# Altium footprint library 28Pin_project_1.1_PCB.PcbLib: 29 footprints (part 2 of 2)
Each footprint in its own frame and in the unit in brackets; x right, y up, seen from the top. Pads: shape width x height; smd on the part's side, far side on the other; paste and mask are expansions set on the pad; w line width, h text height; cw(c..) or ccw(c..) is an arc to the next point about the centre after c.
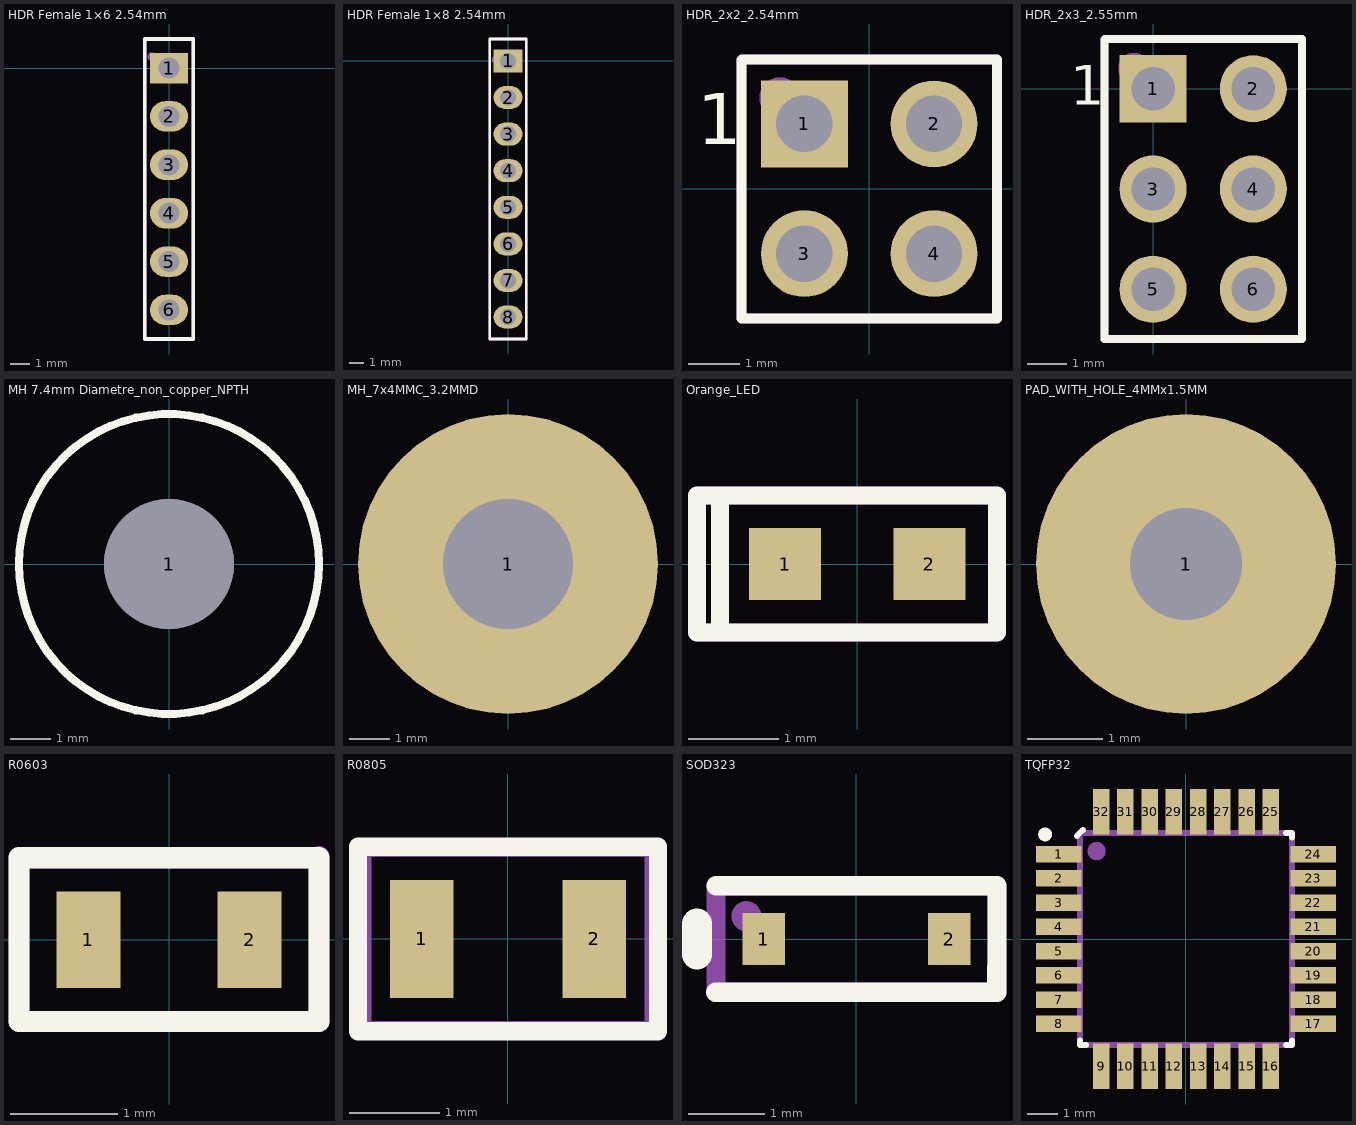
[diagram p1: the footprints below, top view; thin cyan lines are the x and y axes]

## HDR Female 1×6 2.54mm [mm]
pads (6):
  rect 2x1.6 hole 1.1: 1(0,0)
  oval 2x1.6 hole 1.1: 2(0,-2.54) 3(0,-5.08) 4(0,-7.62) 5(0,-10.16) 6(0,-12.7)
Top Overlay:
  lines w0.2: -1.27,-14.224 1.27,-14.224 1.27,1.524 -1.27,1.524 -1.27,-14.224
Mechanical 2:
  circle w0.254: c-0.9,0.6 r0.1
  lines w0.2: -1.27,-14.224 -0.635,-14.224 0.635,-14.224 1.27,-14.224 1.27,1.524 -1.27,1.524 -1.27,-14.224
  text "1" at -2.54,-0.508 h1
  text ".Designator" at 1.138,-9.946 h1.52
3D body "M20-7820646.stp": height 8.66, standoff -3.24, extent -1.23,-14.224 1.27,1.416

## HDR Female 1×8 2.54mm [mm]
pads (8):
  rect 2x1.6 hole 1.1: 1(0,0)
  oval 2x1.6 hole 1.1: 2(0,-2.54) 3(0,-5.08) 4(0,-7.62) 5(0,-10.16) 6(0,-12.7) 7(0,-15.24) 8(0,-17.78)
Top Overlay:
  lines w0.2: -1.27,-19.304 -1.27,-19.05 -1.27,1.524 1.27,1.524 1.27,-19.05 1.27,-19.304 -1.27,-19.304
Mechanical 2:
  circle w0.254: c-0.9,0.1 r0.1
  lines w0.2: -1.27,-19.304 -1.27,1.524 1.27,1.524 1.27,-19.304 0.635,-19.304 -0.635,-19.304 -1.27,-19.304
  text "1" at -2.54,-0.508 h1
  text ".Designator" at 0.548,-15.766 h1.52
3D body "m20-7820842_asm.stp": height 8.31, standoff -3.19, extent -1.23,-19.25 1.27,1.47

## HDR_2x2_2.54mm [mm]
pads (4):
  rect 1.7x1.7 hole 1.1: 1(-1.27,1.27)
  round 1.7 hole 1.1: 2(1.27,1.27) 3(-1.27,-1.27) 4(1.27,-1.27)
Top Overlay:
  lines w0.2: -0.62,2.53 2.5,2.53 2.5,-2.54 -2.5,-2.54 -2.5,2.515 -2.485,2.53 0.65,2.53
  text "1" at -3.37,0.87 h1
Mechanical 2:
  circle w0.6: c-1.75,1.78 r0.1
  lines w0.2: -2.5,-2.54 -2.5,2.53 2.5,2.53 2.5,-2.54 -2.5,-2.54
  text ".Designator" at 0.508,-1.27 h1.52
3D body "961204-6404-XX.stp": height 8, standoff -3.3, extent -2.58,-2.505 2.5,2.495

## HDR_2x3_2.55mm [mm]
pads (6):
  rect 1.7x1.7 hole 1.1: 1(0,0)
  round 1.7 hole 1.1: 2(2.54,0) 3(0,-2.54) 4(2.54,-2.54) 5(0,-5.08) 6(2.54,-5.08)
Top Overlay:
  lines w0.2: 0.65,1.26 3.77,1.26 3.77,-6.34 -1.23,-6.34 -1.23,1.245 -1.215,1.26 1.92,1.26
  text "1" at -2.1,-0.4 h1
Mechanical 2:
  circle w0.6: c-0.48,0.51 r0.1
  lines w0.2: -1.23,-6.34 -1.23,1.26 3.77,1.26 3.77,-6.34 -1.23,-6.34
  text ".Designator" at 2.008,-4.636 h1.52
3D body "961206-6404-XX-header3x2.stp": height 8.01, standoff -3.29, extent -1.23,-6.35 3.77,1.27

## MH 7.4mm Diametre_non_copper_NPTH [mm]
pads (1):
  round 3.2 hole 3.2 unplated: 1(0,0)
Top Overlay:
  circle w0.2: c0,0 r3.7

## MH_7x4MMC_3.2MMD [mm]
pads (1):
  round 7.4 hole 3.2: 1(0,0)

## Orange_LED [mm]
pads (2):
  rect 0.8x0.8 smd: 1(-0.8,0) 2(0.8,0)
Top Overlay:
  lines w0.2: -1.524,-0.762 -1.778,-0.762 -1.778,-0.406 -1.778,0.356 -1.778,0.762 -1.524,0.762 ; -1.524,-0.762 1.549,-0.762 1.549,-0.381 1.549,0.381 1.549,0.762 -1.524,0.762 ; -1.524,-0.762 -1.524,-0.381 -1.524,0.381 -1.524,0.762
Mechanical 2:
  lines w0.2: -1.524,-0.686 -1.524,0.737 ; -1.778,-0.762 -1.778,0.762 1.549,0.762 1.549,-0.762 -1.778,-0.762
  text ".Designator" at -1.118,-0.359 h0.6
3D body: height 0.66, standoff 0, extent -0.152,-0.152 0.153,0.152
3D body "User Library-LED SMD 0603 super red.step": height 0.65, standoff 0, extent -0.85,-0.394 0.85,0.406

## PAD_WITH_HOLE_4MMx1.5MM [mm]
pads (1):
  round 4 hole 1.5: 1(0,0)

## PCBComponent_1 [mm]

## R0603 [mm]
pads (2):
  rect 0.6x0.9 smd: 1(-0.75,0) 2(0.75,0)
Top Overlay:
  lines w0.2: -1.397,-0.762 -1.397,0.762 1.397,0.762 1.397,-0.762 -1.397,-0.762
Mechanical 2:
  lines w0.2: -1.397,-0.762 1.397,-0.762 1.397,0.775 1.384,0.762 -1.397,0.762 -1.397,-0.762
  text ".Designator" at -0.826,-0.305 h0.76
3D body "R0603.step": height 0.81, standoff 0.01, extent -0.8,-0.419 0.8,0.421

## R0805 [mm]
pads (2):
  rect 0.7x1.3 smd: 1(-0.95,0) 2(0.95,0)
Top Overlay:
  lines w0.2: -1.651,-1.016 1.651,-1.016 1.651,1.016 -1.651,1.016 -1.651,-1.016
Mechanical 2:
  lines w0.2: -1.6,-1 1.6,-1 1.6,1 -1.6,1 -1.6,-1
  text ".Designator" at -1.15,-0.283 h0.8
3D body "User Library-Chip Resistor2.step": height 0.71, standoff 0.01, extent -1.013,-0.6 0.987,0.6

## SOD323 [mil]
pads (2):
  rect 22x27 smd: 1(-48,0) 2(48,0)
Top Overlay:
  lines w10: -73,-27.56 70.87,-27.56 ; -72.83,27.56 70.87,27.56 ; 72.67,-27.56 72.83,0 72.83,27.56
  lines w15.75: -82.68,-7.87 -82.68,7.87
Mechanical 2:
  circle w10: c-57.09,11.81 r2.78
  lines w10: -72.83,-27.56 72.83,-27.56 72.83,27.56 -72.83,27.56 -72.83,-27.56
  text ".Designator" at -51.18,-5.26 h55.12
3D body "User Library-SOD323.step": height 35.43, standoff -3.54, extent -49.21,-23.62 49.21,25.59

## TQFP32 [mm]
pads (32):
  rect 1.5x0.55 smd paste+0 mask+0.06: 1(-4.2,2.8) 2(-4.2,2) 3(-4.2,1.2) 4(-4.2,0.4) 5(-4.2,-0.4) 6(-4.2,-1.2) 7(-4.2,-2) 8(-4.2,-2.8) 17(4.2,-2.8) 18(4.2,-2) 19(4.2,-1.2) 20(4.2,-0.4) 21(4.2,0.4) 22(4.2,1.2) 23(4.2,2) 24(4.2,2.8)
  rect 0.55x1.5 smd paste+0 mask+0.06: 9(-2.8,-4.2) 10(-2,-4.2) 11(-1.2,-4.2) 12(-0.4,-4.2) 13(0.4,-4.2) 14(1.2,-4.2) 15(2,-4.2) 16(2.8,-4.2) 25(2.8,4.2) 26(2,4.2) 27(1.2,4.2) 28(0.4,4.2) 29(-0.4,4.2) 30(-1.2,4.2) 31(-2,4.2) 32(-2.8,4.2)
Top Overlay:
  circle w0.254: c-4.65,3.45 r0.1
  lines w0.2: -3.6,3.4 -3.4,3.6 ; -3.3,-3.5 -3.5,-3.5 ; 3.3,-3.5 3.5,-3.5 ; 3.3,3.5 3.5,3.5 ; -3.5,-3.5 -3.5,-3.35 -3.5,-3.5 ; 3.5,-3.5 3.5,-3.35 3.5,-3.5 ; 3.5,3.5 3.5,3.35 3.5,3.5
Mechanical 2:
  circle w0.4: c-2.95,2.9 r0.1
  lines w0.2: -3.5,-3.3 -3.5,3.35 ; -3.35,3.5 3.25,3.5 ; -3.25,-3.5 3.2,-3.5 ; 3.5,-3.3 3.5,3.3
  text ".Designator" at -1.75,0 h1.8
3D body "User Library-tqfp32.step": height 1.2, standoff 0, extent -4.599,-4.599 4.6,4.599